# EAGLE library part PCA9665D (library NXP)
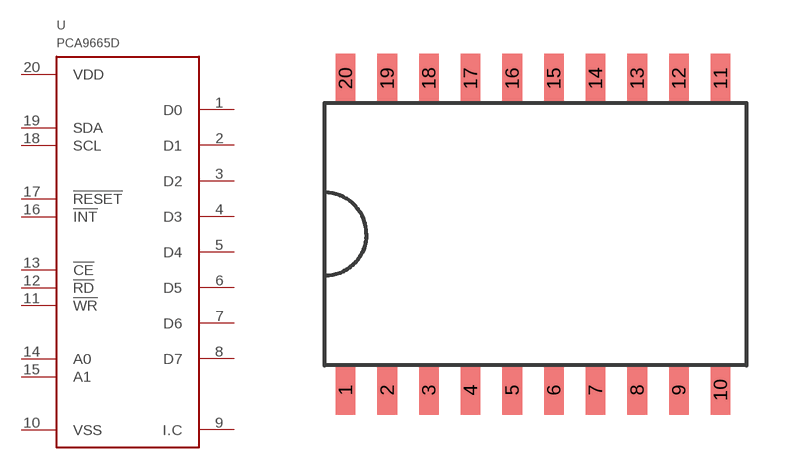
[diagram p0: symbol with the pads of SOT163-1; footprint SOT163-1]

Designator prefix U

## PCA9665D  [SOT163-1]
1  D0
2  D1
3  D2
4  D3
5  D4
6  D5
7  D6
8  D7
9  I.C  nc
10  VSS  pwr
11  !WR  in
12  !RD  in
13  !CE  in
14  A0  in
15  A1  in
16  !INT  out
17  !RESET  in
18  SCL
19  SDA
20  VDD  pwr

## Footprint SOT163-1 (pad centres in mm)
smd 0.6 x 1.5: 1 -5.715,-4.75; 2 -4.445,-4.75; 3 -3.175,-4.75; 4 -1.905,-4.75; 5 -0.635,-4.75; 6 0.635,-4.75; 7 1.905,-4.75; 8 3.175,-4.75; 9 4.445,-4.75; 10 5.715,-4.75; 11 5.715,4.75; 12 4.445,4.75; 13 3.175,4.75; 14 1.905,4.75; 15 0.635,4.75; 16 -0.635,4.75; 17 -1.905,4.75; 18 -3.175,4.75; 19 -4.445,4.75; 20 -5.715,4.75